# Altium schematic symbol library NX3225GA-25P000M-STD-CRG-2.SchLib: 2 symbols
Pins are listed as number, name and electrical type; pins without a type are passive.

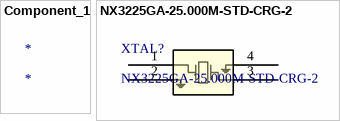
[diagram p0: symbols Component_1 to NX3225GA-25.000M-STD-CRG-2]

## Component_1
designator *

## NX3225GA-25.000M-STD-CRG-2
designator XTAL?
No Description Available; Mfr_Name: NDK; Copyright: Copyright (C) 2023 Ultra Librarian. All rights reserved.; Manufacturer_Part_Number: NX3225GA-25.000M-STD-CRG-2; Digi-Key_Part_Number_1: 644-1259-2-ND; Digi-Key_Part_Number_2: 644-1259-1-ND; Digi-Key_Part_Number_3: 644-1259-6-ND; RefDes: RefDes; Type: DEV
footprint NX3225GA-25.000M-STD-CRG-2_NDK
pins: 1, 2, 3, 4